# Altium footprint library conector.PcbLib: 1 footprints
Each footprint in its own frame and in the unit in brackets; x right, y up, seen from the top. Pads: shape width x height; smd on the part's side, far side on the other; paste and mask are expansions set on the pad; w line width, h text height; cw(c..) or ccw(c..) is an arc to the next point about the centre after c.
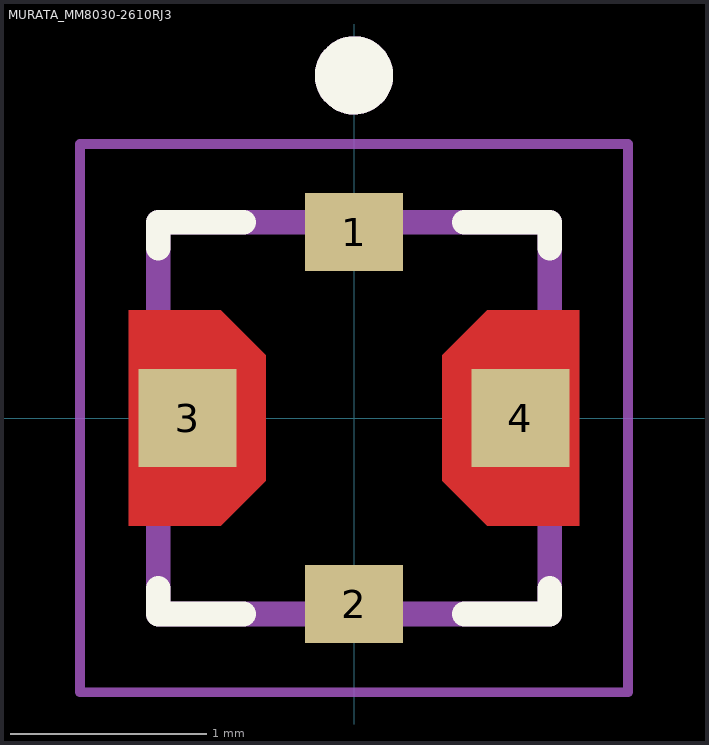
[diagram p0: the footprint, top view; thin cyan lines are the x and y axes]

## MURATA_MM8030-2610RJ3 [mm]
pads (4):
  rect 0.5x0.4 smd paste-1 mask+0: 1(0,0.95) 2(0,-0.95)
  rect 0.5x0.5 smd paste-1 mask+0: 3(-0.85,0) 4(0.85,0)
Top Layer:
  region: 1.15,-0.55 0.68,-0.55 0.45,-0.32 0.45,0.32 0.68,0.55 1.15,0.55
  region: -0.45,0.32 -0.45,-0.32 -0.68,-0.55 -1.15,-0.55 -1.15,0.55 -0.68,0.55
Top Overlay:
  circle w0.2: c0,1.75 r0.1
  lines w0.127: -1,-0.869 -1,-1 -0.564,-1 ; -1,0.869 -1,1 -0.564,1 ; 0.564,-1 1,-1 1,-0.869 ; 0.564,1 1,1 1,0.869
Top Paste:
  region: 0.165,0.82 -0.165,0.82 -0.165,1.15 0.165,1.15
  region: 0.165,-1.15 -0.165,-1.15 -0.165,-0.82 0.165,-0.82
  region: 1.1,-0.5 0.68,-0.5 0.59,-0.41 0.59,0.41 0.68,0.5 1.1,0.5
  region: -0.59,0.41 -0.59,-0.41 -0.68,-0.5 -1.1,-0.5 -1.1,0.5 -0.68,0.5
Top Solder:
  region: 0.25,0.75 -0.25,0.75 -0.25,1.15 0.25,1.15
  region: 0.25,-1.15 -0.25,-1.15 -0.25,-0.75 0.25,-0.75
  region: 1.15,-0.55 0.68,-0.55 0.45,-0.32 0.45,0.32 0.68,0.55 1.15,0.55
  region: -0.45,0.32 -0.45,-0.32 -0.68,-0.55 -1.15,-0.55 -1.15,0.55 -0.68,0.55
Mechanical 13:
  circle w0.2: c0,1.75 r0.1
  lines w0.127: -1,-1 -1,1 1,1 1,-1 -1,-1
Mechanical 15:
  lines w0.05: -1.4,-1.4 -1.4,1.4 1.4,1.4 1.4,-1.4 -1.4,-1.4
3D body "comector.STEP": height 0.9, standoff 0, extent -1,-1.05 1,1.05